# Altium schematic symbol library NHD-C0216CIZ-FSW-FBW-3V3.SchLib: 1 symbol
Pins are listed as number, name and electrical type; pins without a type are passive.

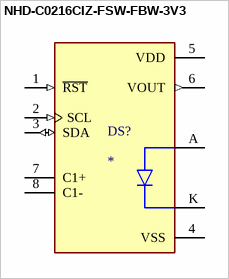
[diagram p0: symbol NHD-C0216CIZ-FSW-FBW-3V3]

## NHD-C0216CIZ-FSW-FBW-3V3
designator DS?
Character Display FSTN Transflective 16Char x 2Line 8-Pin; MF: {'manufacturer': u'Newhaven'}; MP: NHD-C0216CIZ-FSW-FBW-3V3; Package: None; Price: None; Value: *; Availability: Unavailable
footprint LCD_NHD-C0216CIZ-FSW-FBW-3V3
pins: 1 ~{RST} (in), 2 SCL (in), 3 SDA (io), 4 VSS (power), 5 VDD (power), 6 VOUT (out), 7 C1+, 8 C1-, A, K